# Altium footprint library Blueberry_sound.PcbLib: 53 footprints (part 1 of 4)
Each footprint in its own frame and in the unit in brackets; x right, y up, seen from the top. Pads: shape width x height; smd on the part's side, far side on the other; paste and mask are expansions set on the pad; w line width, h text height; cw(c..) or ccw(c..) is an arc to the next point about the centre after c.
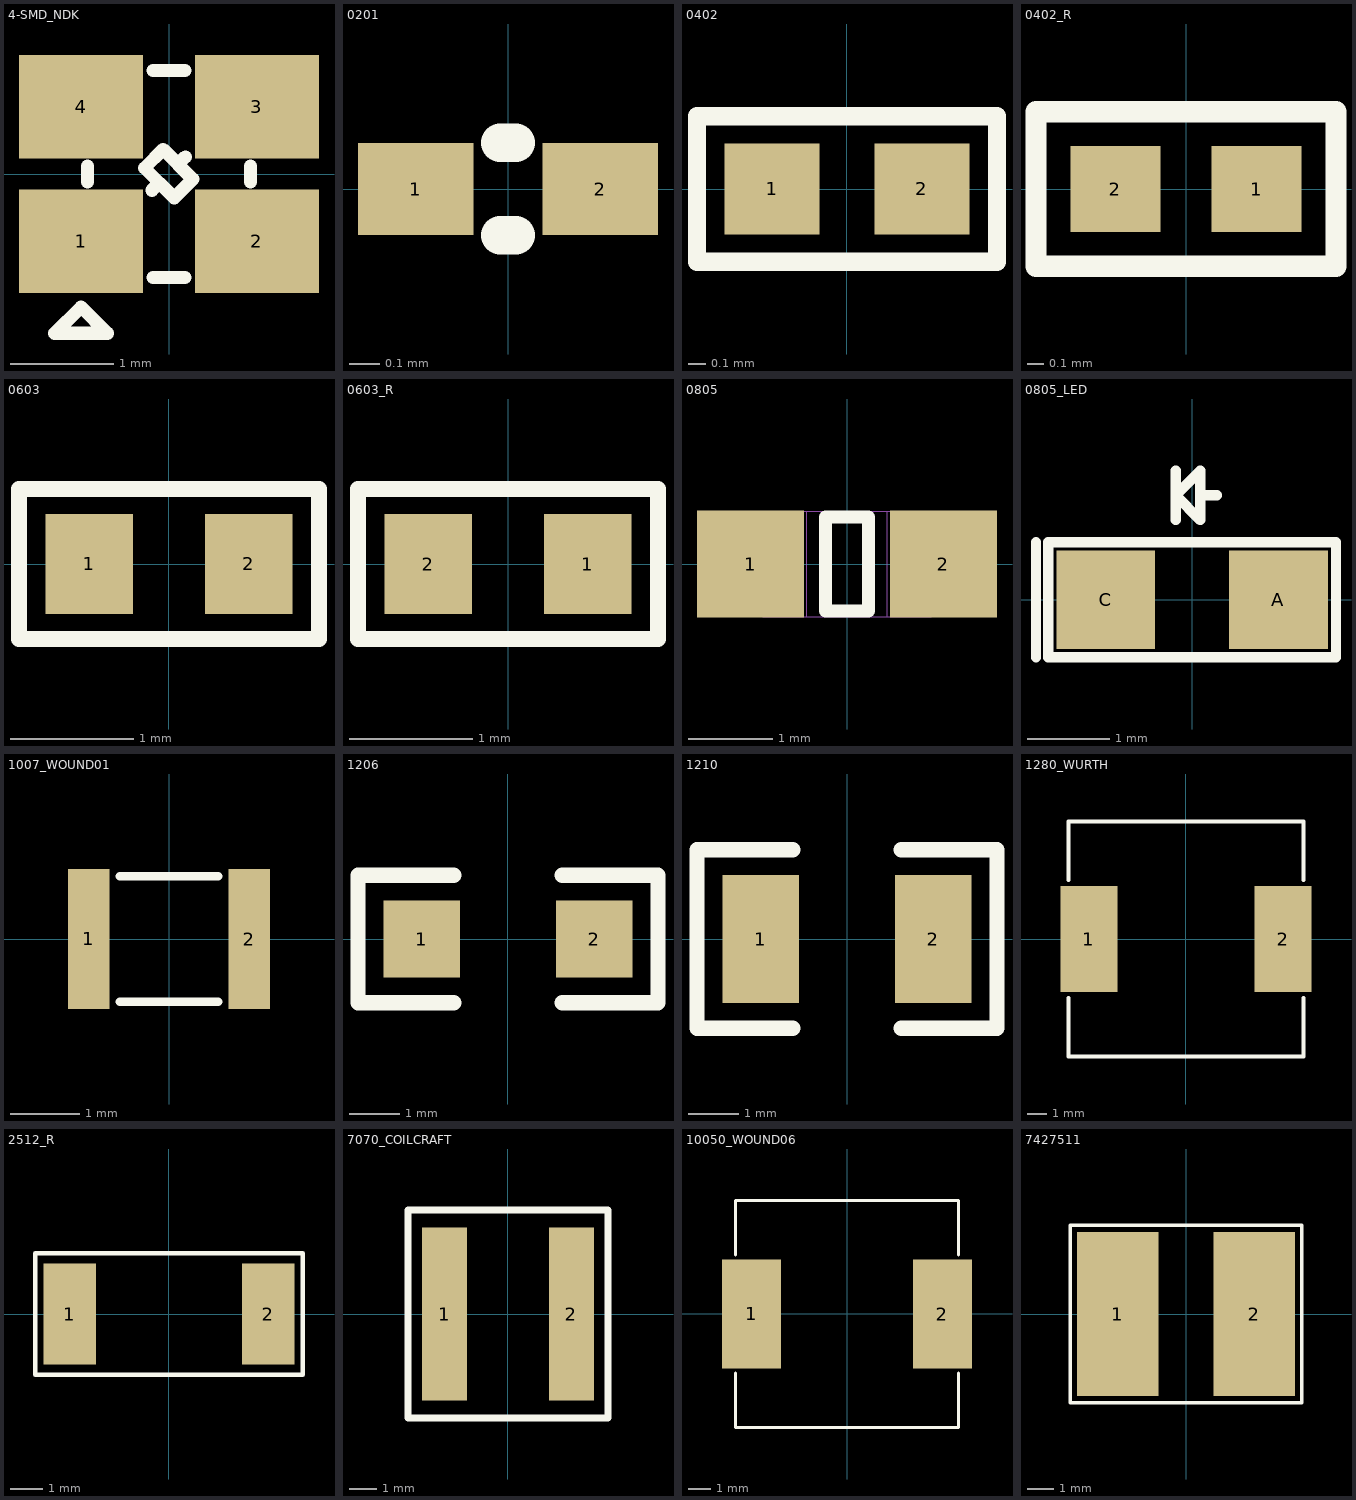
[diagram p0: the footprints below, top view; thin cyan lines are the x and y axes]

## 4-SMD_NDK [mm]
pads (4):
  rect 1.2x1 smd: 1(-0.85,-0.65) 2(0.85,-0.65) 3(0.85,0.65) 4(-0.85,0.65)
Top Overlay:
  lines w0.127: -0.787,-0.076 -0.787,0.076 ; -0.165,-0.157 -0.093,-0.085 ; -0.152,-1 0.152,-1 ; -0.152,1 0.152,1 ; 0.087,0.095 0.159,0.167 ; 0.787,-0.076 0.787,0.076 ; -1.104,-1.539 -0.596,-1.539 -0.85,-1.285 -1.104,-1.539 ; -0.237,0.059 -0.057,0.238 0.23,-0.049 0.051,-0.229 -0.237,0.059

## 0201 [mil]
pads (2):
  rect 15x12 smd: 1(-12,0) 2(12,0)
Top Overlay:
  lines w5: -1,-6 1,-6 ; -1,6 1,6

## 0402 [mil]
pads (2):
  rect 21x20 smd: 1(-16.5,0) 2(16.5,0)
Top Overlay:
  lines w4: -33,-16 33,-16 33,16 -33,16 -33,-16

## 0402_R [mil]
pads (2):
  rect 21x20 smd: 1(16.5,0) 2(-16.5,0)
Top Overlay:
  lines w5: -35,-18 -35,18 35,18 35,-18 -35,-18

## 0603 [mil]
pads (2):
  rect 28x32 smd: 1(-25.5,0) 2(25.5,0)
Top Overlay:
  lines w5: -48,-24 -48,24 48,24 48,-24 -48,-24

## 0603_R [mil]
pads (2):
  rect 28x32 smd: 1(25.5,0) 2(-25.5,0)
Top Overlay:
  lines w5: -48,-24 -48,24 48,24 48,-24 -48,-24

## 0805 [mil]
pads (2):
  rect 50x50 smd: 1(-45,0) 2(45,0)
Top Overlay:
  lines w6: -10,-22 10,-22 10,22 -10,22 -10,-22
Mechanical 13:
  lines w0.39: -39.37,-24.61 -39.37,24.61 ; -39.37,-24.61 39.37,-24.61 ; -39.37,-24.61 -39.37,24.61 ; -39.37,-24.61 -18.7,-24.61 ; -39.37,24.61 39.37,24.61 ; -39.37,24.61 -18.7,24.61 ; -18.7,-24.61 -18.7,24.61 ; -18.7,-24.61 -18.7,24.61 ; -18.7,-24.61 18.7,-24.61 ; -18.7,24.61 18.7,24.61 ; 18.7,-24.61 39.37,-24.61 ; 18.7,-24.61 18.7,24.61 ; 18.7,-24.61 18.7,24.61 ; 18.7,-24.61 18.7,24.61 ; 18.7,24.61 39.37,24.61 ; 39.37,-24.61 39.37,24.61 ; 39.37,-24.61 39.37,24.61

## 0805_LED [mm]
pads (2):
  rect 1.2x1.2 smd: A(1.05,0) C(-1.05,0)
Top Overlay:
  lines w0.127: -1.9,-0.7 -1.9,0.7 ; -0.2,0.97 -0.2,1.57 ; 0.1,1.27 0.3,1.27 ; -1.75,-0.7 1.75,-0.7 1.75,0.7 -1.75,0.7 -1.75,-0.7 ; -0.2,1.27 0.1,0.97 0.1,1.57 -0.2,1.27

## 1007_WOUND01 [mm]
pads (2):
  rect 0.6x2 smd: 1(-1.15,0) 2(1.15,0)
Top Overlay:
  lines w0.127: -0.7,-0.9 0.7,-0.9 ; -0.7,0.9 0.7,0.9

## 1206 [mil]
pads (2):
  rect 60x60 smd: 1(-67.5,0) 2(67.5,0)
Top Overlay:
  lines w12: -42.5,-50 -117.5,-50 -117.5,50 -42.5,50 ; 42.5,-50 117.5,-50 117.5,50 42.5,50

## 1210 [mil]
pads (2):
  rect 60x100 smd: 1(-67.5,0) 2(67.5,0)
Top Overlay:
  lines w12: -42.5,-70 -117.5,-70 -117.5,70 -42.5,70 ; 42.5,-70 117.5,-70 117.5,70 42.5,70

## 1280_WURTH [mm]
pads (2):
  rect 2.9x5.4 smd: 1(-4.95,0) 2(4.95,0)
Top Overlay:
  lines w0.203: -6,-3 -6,-6 6,-6 6,-3 ; -6,3 -6,6 6,6 6,3

## 2512_R [mil]
pads (2):
  rect 65x125 smd: 1(-122.5,0) 2(122.5,0)
Top Overlay:
  lines w6: -165,-75 165,-75 165,75 -165,75 -165,-75

## 7070_COILCRAFT [mm]
pads (2):
  rect 1.63x6.23 smd: 1(-2.285,0) 2(2.285,0)
Top Overlay:
  lines w0.254: -3.6,-3.75 -3.6,3.75 3.6,3.75 3.6,-3.75 -3.6,-3.75

## 10050_WOUND06 [mm]
pads (2):
  rect 2.6x4.8 smd: 1(-4.2,0) 2(4.2,0)
Top Overlay:
  lines w0.127: -4.9,-2.6 -4.9,-5 4.9,-5 4.9,-2.6 ; -4.9,2.6 -4.9,5 4.9,5 4.9,2.6

## 7427511 [mil]
pads (2):
  rect 120x240 smd: 1(-100,0) 2(100,0)
Top Overlay:
  lines w5: -170,-130 -170,130 170,130 170,-130 -170,-130